# Altium footprint library BB-SWN-C-1-HW_MODULE.PcbLib: 1 footprints
Each footprint in its own frame and in the unit in brackets; x right, y up, seen from the top. Pads: shape width x height; smd on the part's side, far side on the other; paste and mask are expansions set on the pad; w line width, h text height; cw(c..) or ccw(c..) is an arc to the next point about the centre after c.
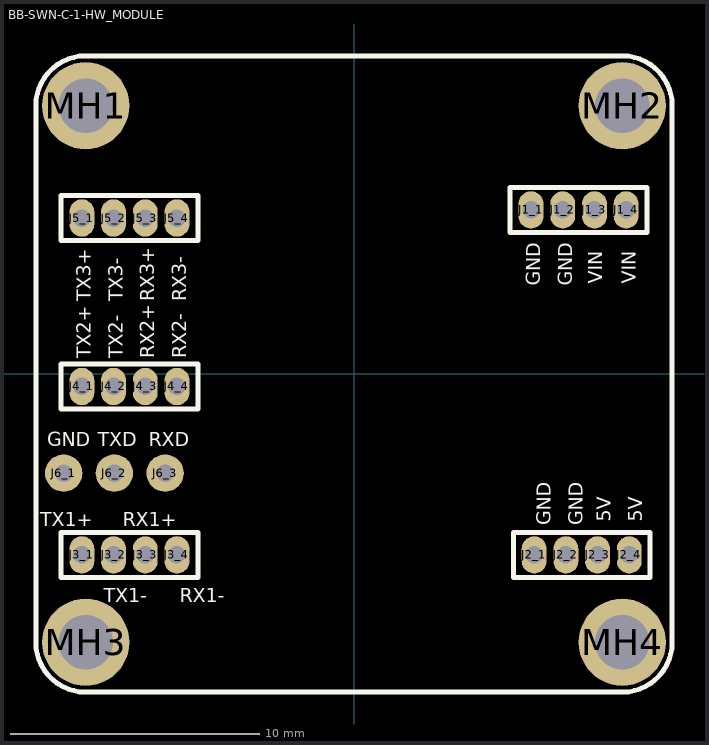
[diagram p0: the footprint, top view; thin cyan lines are the x and y axes]

## BB-SWN-C-1-HW_MODULE [mm]
pads (27):
  oval 1x1.5 hole 0.7 mask+0.05: J1_1(7.095,6.574) J1_2(8.365,6.574) J1_3(9.635,6.574) J1_4(10.905,6.574) J2_1(7.22,-7.25) J2_2(8.49,-7.25) J2_3(9.76,-7.25) J2_4(11.03,-7.25) J3_1(-10.905,-7.25) J3_2(-9.635,-7.25) J3_3(-8.365,-7.25) J3_4(-7.095,-7.25) J4_1(-10.905,-0.5) J4_2(-9.635,-0.5) J4_3(-8.365,-0.5) J4_4(-7.095,-0.5) J5_1(-10.905,6.25) J5_2(-9.635,6.25) J5_3(-8.365,6.25) J5_4(-7.095,6.25)
  round 1.5 hole 0.7: J6_1(-11.634,-3.972) J6_2(-9.602,-3.972) J6_3(-7.57,-3.972)
  round 3.5 hole 2.2: MH1(-10.75,10.75) MH2(10.75,10.75) MH3(-10.75,-10.75) MH4(10.75,-10.75)
Top Overlay:
  lines w0.2: -12.75,-10.75 ccw(c-10.75,-10.75) -10.75,-12.75 10.75,-12.75 ccw(c10.75,-10.75) 12.75,-10.75 12.75,10.75 ccw(c10.75,10.75) 10.75,12.75 -10.75,12.75 ccw(c-10.75,10.75) -12.75,10.75 -12.75,-10.75 ; -11.74,-8.15 -6.26,-8.15 -6.26,-6.35 -11.74,-6.35 -11.74,-8.15 ; -11.74,-1.4 -6.26,-1.4 -6.26,0.4 -11.74,0.4 -11.74,-1.4 ; -11.74,5.35 -6.26,5.35 -6.26,7.15 -11.74,7.15 -11.74,5.35 ; 6.26,5.674 11.74,5.674 11.74,7.474 6.26,7.474 6.26,5.674 ; 6.385,-8.15 11.865,-8.15 11.865,-6.35 6.385,-6.35 6.385,-8.15
  text "TX1+" at -12.573,-6.096 h0.55
  text "TX1-" at -10.033,-9.144 h0.55
  text "RX1-" at -6.985,-9.144 h0.55
  text "RX1+" at -9.271,-6.096 h0.55
  text "RXD" at -8.23,-2.896 h0.55
  text "TXD" at -10.262,-2.896 h0.55
  text "GND" at -12.294,-2.896 h0.55
  text "TX3+" at -10.541,2.921 h0.55
  text "TX3-" at -9.271,2.921 h0.55
  text "RX3-" at -6.731,2.921 h0.55
  text "RX3+" at -8.001,2.921 h0.55
  text "RX2+" at -8.001,0.635 h0.55
  text "RX2-" at -6.731,0.635 h0.55
  text "TX2-" at -9.271,0.635 h0.55
  text "TX2+" at -10.541,0.635 h0.55
  text "GND" at 7.892,-6.063 h0.55
  text "GND" at 9.162,-6.063 h0.55
  text "5V" at 10.28,-5.911 h0.55
  text "5V" at 11.55,-5.911 h0.55
  text "GND" at 8.738,3.532 h0.55
  text "VIN" at 9.941,3.624 h0.55
  text "VIN" at 11.296,3.614 h0.55
  text "GND" at 7.468,3.532 h0.55
3D body "M50-3030442_asm.stp": height 4.4, standoff -2.4, extent -11.74,5.35 -6.26,7.15
3D body "BB-SWN-C-1-HW.step": height 8.75, standoff 1.35, extent -12.719,-12.743 12.781,12.757
3D body "M50-3030442_asm.stp": height 4.4, standoff -2.4, extent -11.74,-1.4 -6.26,0.4
3D body "M50-3030442_asm.stp": height 4.4, standoff -2.4, extent -11.74,-8.15 -6.26,-6.35
3D body "M50-3030442_asm.stp": height 4.4, standoff -2.4, extent 6.385,-8.15 11.865,-6.35
3D body "M50-3030442_asm.stp": height 4.4, standoff -2.4, extent 6.26,5.674 11.74,7.474